# Altium schematic symbol library HexaPod - Capacitor.SchLib: 8 symbols
Pins are listed as number, name and electrical type; pins without a type are passive.

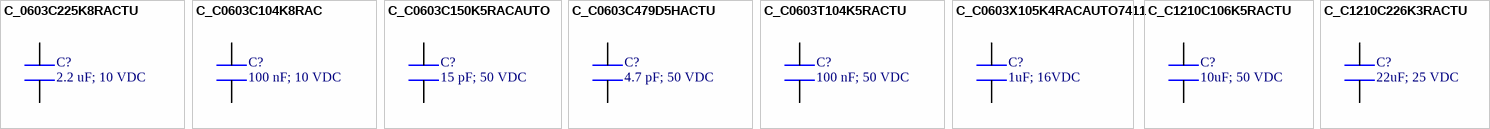
[diagram p0: symbols C_0603C225K8RACTU to C_C1210C226K3RACTU]

## C_0603C225K8RACTU
designator C?, comment 2.2 uF; 10 VDC
Kondensator aus mehreren Keramikschichten MLCC - SMD/SMT; Part Number: C_0603C225K8RACTU; Manufacturer: KEMET; Manufacturer Part Number: C0603C225K8RACTU / C0603C225K8RACTU; Capacity: 2.2 uF; Tolerance: 10%; Nennspannung: 10 VDC; Size mm: 1608; Datasheet: https://www.mouser.de/datasheet/2/447/KEM_C1002_X7R_SMD-3316098.pdf; Operating Temperature: -55°C - +125°C; Mouser Link: https://www.mouser.de/ProductDetail/KEMET/C0603C225K8RACTU?qs=eTOzTKnOMhYlPIPCMJrh4g%3D%3D
footprint C_KEMET_1608
pins: 1 10, 2 11

## C_C0603C104K8RAC
designator C?, comment 100 nF; 10 VDC
Kondensator aus mehreren Keramikschichten MLCC - SMD/SMT; Part Number: C_C0603C104K8RAC; Manufacturer: KEMET; Manufacturer Part Number: C0603C104K8RAC; Capacity: 100 nF; Tolerance: 10%; Nennspannung: 10 VDC; Size mm: 1608; Datasheet: https://www.mouser.de/datasheet/2/447/KEM_C1002_X7R_SMD-3316098.pdf; Operating Temperature: -55°C - +125°C; Mouser Link: https://www.mouser.de/ProductDetail/KEMET/C0603C104K8RAC?qs=JxH5GSBHSCStdUs4AtW0Gg%3D%3D
footprint C_KEMET_1608
pins: 1 10, 2 11

## C_C0603C150K5RACAUTO
designator C?, comment 15 pF; 50 VDC
Kondensator aus mehreren Keramikschichten MLCC - SMD/SMT; Part Number: C_C0603C150K5RACAUTO; Manufacturer: KEMET; Manufacturer Part Number: C0603C150K5RACAUTO; Capacity: 15 pF; Tolerance: 10%; Nennspannung: 50 VDC; Size mm: 1608; Datasheet: https://www.mouser.de/datasheet/2/447/KEM_C1002_X7R_SMD-3316098.pdf; Operating Temperature: -55°C - +125°C; Mouser Link: https://www.mouser.de/ProductDetail/KEMET/C0603C225K8RACTU?qs=eTOzTKnOMhYlPIPCMJrh4g%3D%3D
footprint C_KEMET_1608
pins: 1 10, 2 11

## C_C0603C479D5HACTU
designator C?, comment 4.7 pF; 50 VDC
Kondensator aus mehreren Keramikschichten MLCC - SMD/SMT; Part Number: C_C0603C479D5HACTU; Manufacturer: KEMET; Manufacturer Part Number: C0603C479D5HACTU; Capacity: 4.7 pF; Tolerance: 0.5 pF; Nennspannung: 50 VDC; Size mm: 1608; Datasheet: https://www.mouser.de/datasheet/2/447/KEM_C1002_X7R_SMD-3316098.pdf; Operating Temperature: -55°C - +125°C; Mouser Link: https://www.mouser.de/ProductDetail/KEMET/C0603C479D5HACTU?qs=W0yvOO0ixfFwenrsfTByjA%3D%3D
footprint C_KEMET_1608
pins: 1 10, 2 11

## C_C0603T104K5RACTU
designator C?, comment 100 nF; 50 VDC
Kondensator aus mehreren Keramikschichten MLCC - SMD/SMT; Part Number: C_C0603T104K5RACTU; Manufacturer: KEMET; Manufacturer Part Number: C0603T104K5RACTU; Capacity: 100 nF; Tolerance: 10%; Nennspannung: 50 VDC; Size mm: 1608; Datasheet: https://www.mouser.de/datasheet/2/447/KEM_C1002_X7R_SMD-3316098.pdf; Operating Temperature: -55°C - +125°C; Mouser Link: https://www.mouser.de/ProductDetail/KEMET/C0603T104K5RACTU?qs=gt1LBUVyoHmlyFs%2F6IWD2Q%3D%3D
footprint C_KEMET_1608
pins: 1 10, 2 11

## C_C0603X105K4RACAUTO7411
designator C?, comment 1uF; 16VDC
Kondensator aus mehreren Keramikschichten MLCC - SMD/SMT; Part Number: C_C0603X105K4RACAUTO7411; Manufacturer: KEMET; Manufacturer Part Number: C0603X105K4RACAUTO7411; Tolerance: 10%; Capacity: 1uF; Nennspannung: 16VDC; Size mm: 1608; Datasheet: https://www.mouser.de/datasheet/2/447/KEM_C1002_X7R_SMD-3316098.pdf; Operating Temperature: -55°C - +125°C; Mouser Link: https://www.mouser.de/ProductDetail/KEMET/C0603X105K4RACAUTO7411?qs=55YtniHzbhCFXoL%252B6qNZhA%3D%3D
footprint C_KEMET_1608
pins: 1 10, 2 11

## C_C1210C106K5RACTU
designator C?, comment 10uF; 50 VDC
Kondensator aus mehreren Keramikschichten MLCC - SMD/SMT; Part Number: C_C1210C106K5RACTU; Manufacturer: KEMET; Manufacturer Part Number: C1210C106K5RACTU; Tolerance: 10%; Nennspannung: 50 VDC; Capacity: 10uF; Size mm: 3225; Datasheet: https://www.mouser.de/datasheet/2/447/KEM_C1002_X7R_SMD-3316098.pdf; Operating Temperature: -55°C - +125°C; Mouser Link: https://www.mouser.de/ProductDetail/KEMET/C1210C106K5RACTU?qs=Ay79KZaUeZCnuZLm9qvTNQ%3D%3D
footprint C_KEMET_3225
pins: 1 10, 2 11

## C_C1210C226K3RACTU
designator C?, comment 22uF; 25 VDC
Kondensator aus mehreren Keramikschichten MLCC - SMD/SMT; Part Number: C_C1210C226K3RACTU; Manufacturer: KEMET; Manufacturer Part Number: C1210C226K3RACTU; Tolerance: 10%; Nennspannung: 25 VDC; Capacity: 22uF; Size mm: 3225; Datasheet: https://www.mouser.de/datasheet/2/447/KEM_C1002_X7R_SMD-3316098.pdf; Operating Temperature: -55°C - +125°C; Mouser Link: https://www.mouser.de/ProductDetail/KEMET/C1210C226K3RACTU?qs=BvpHGKeVh3rJwSKhageSfQ%3D%3D
footprint C_KEMET_3225
pins: 1 10, 2 11